# Altium footprint library WCAP-CSGP.PcbLib: 25 footprints (part 1 of 2)
Each footprint in its own frame and in the unit in brackets; x right, y up, seen from the top. Pads: shape width x height; smd on the part's side, far side on the other; paste and mask are expansions set on the pad; w line width, h text height; cw(c..) or ccw(c..) is an arc to the next point about the centre after c.
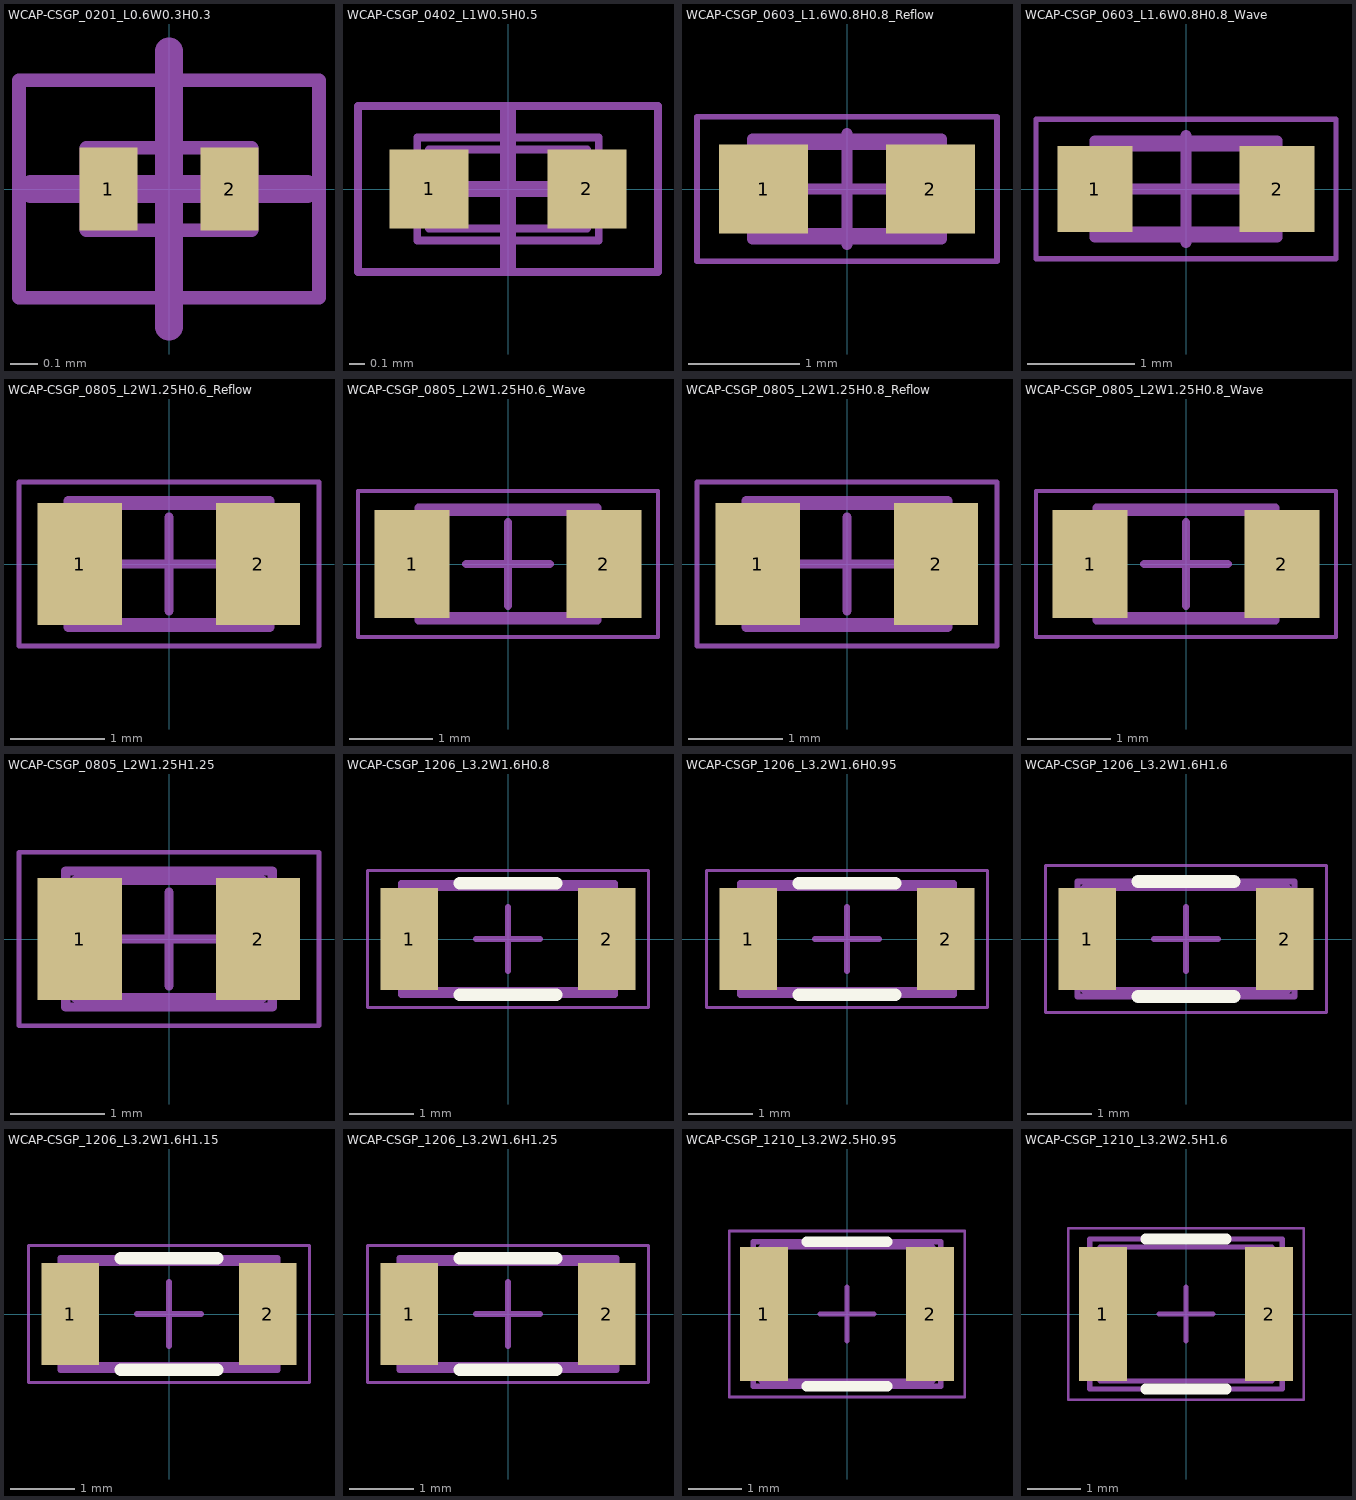
[diagram p0: the footprints below, top view; thin cyan lines are the x and y axes]

## WCAP-CSGP_0201_L0.6W0.3H0.3 [mm] "Ceramic Capacitors, body 0.60x0.30mm"
height 0.3
pads (2):
  rect 0.21x0.3 smd: 1(-0.22,0) 2(0.22,0)
Top Assembly:
  lines w0.05: -0.3,-0.15 0.3,-0.15 0.3,0.15 -0.3,0.15 -0.3,-0.15
Top Designator:
  text ".Designator" at -3.647,-0.357 h1
Top 3D Body:
  lines w0.05: -0.3,-0.15 0.3,-0.15 0.3,0.15 -0.3,0.15 -0.3,-0.15
Top Courtyard:
  lines w0.05: -0.545,-0.395 0.545,-0.395 0.545,0.395 -0.545,0.395 -0.545,-0.395
Top Component Center:
  lines w0.1: -0.5,0 0.5,0 ; 0,-0.5 0,0.5
3D body "CAPC0603X03N.step": height 0.3, standoff 0, extent -0.3,-0.15 0.3,0.15

## WCAP-CSGP_0402_L1W0.5H0.5 [mm] "Ceramic Capacitors, body 1x0.5mm"
height 0.5
pads (2):
  rect 0.5x0.5 smd: 1(-0.5,0) 2(0.5,0)
Top Assembly:
  lines w0.05: -0.575,-0.325 0.575,-0.325 0.575,0.325 -0.575,0.325 -0.575,-0.325
Top Designator:
  text ".Designator" at -3.647,-0.357 h1
Top 3D Body:
  lines w0.05: -0.5,-0.25 0.5,-0.25 0.5,0.25 -0.5,0.25 -0.5,-0.25
Top Courtyard:
  lines w0.05: -0.95,-0.525 0.95,-0.525 0.95,0.525 -0.95,0.525 -0.95,-0.525
Top Component Center:
  lines w0.1: -0.5,0 0.5,0 ; 0,-0.5 0,0.5
3D body "CAPC1005X05N.step": height 0.5, standoff 0, extent -0.5,-0.25 0.5,0.25

## WCAP-CSGP_0603_L1.6W0.8H0.8_Reflow [mm] "Ceramic Capacitors, body 1.6x0.8mm"
height 0.8
pads (2):
  rect 0.8x0.8 smd: 1(-0.75,0) 2(0.75,0)
Top Assembly:
  lines w0.1: -0.85,-0.45 -0.85,0.45 0.85,0.45 0.85,-0.45 -0.85,-0.45
Top Designator:
  text ".Designator" at -3.647,-0.357 h1
Top 3D Body:
  lines w0.1: -0.8,-0.4 -0.8,0.4 0.8,0.4 0.8,-0.4 -0.8,-0.4
Top Courtyard:
  lines w0.05: -1.35,-0.65 -1.35,0.65 1.35,0.65 1.35,-0.65 -1.35,-0.65
Top Component Center:
  lines w0.1: -0.5,0 0.5,0 ; 0,-0.5 0,0.5
3D body "CAPC1608X08N.step": height 0.8, standoff 0, extent -0.8,-0.4 0.8,0.4

## WCAP-CSGP_0603_L1.6W0.8H0.8_Wave [mm] "Ceramic Capacitors, 0603, body 1.6x0.8mm"
height 0.8
pads (2):
  rect 0.7x0.8 smd: 1(-0.85,0) 2(0.85,0)
Top Assembly:
  lines w0.1: -0.85,-0.45 0.85,-0.45 0.85,0.45 -0.85,0.45 -0.85,-0.45
Top Designator:
  text ".Designator" at -3.647,-0.357 h1
Top 3D Body:
  lines w0.1: -0.8,-0.4 0.8,-0.4 0.8,0.4 -0.8,0.4 -0.8,-0.4
Top Courtyard:
  lines w0.05: -1.4,-0.65 -1.4,0.65 1.4,0.65 1.4,-0.65 -1.4,-0.65
Top Component Center:
  lines w0.1: -0.5,0 0.5,0 ; 0,-0.5 0,0.5
3D body "CAPC1608X08N.step": height 0.8, standoff 0, extent -0.8,-0.4 0.8,0.4

## WCAP-CSGP_0805_L2W1.25H0.6_Reflow [mm] "Ceramic Capacitors, body 2x1.25mm"
height 0.7
pads (2):
  rect 0.9x1.3 smd: 1(-0.95,0) 2(0.95,0)
Top Assembly:
  lines w0.1: -1.075,-0.675 -1.075,0.675 1.075,0.675 1.075,-0.675 -1.075,-0.675
Top Designator:
  text ".Designator" at -3.647,-0.357 h1
Top 3D Body:
  lines w0.1: -1,-0.625 -1,0.625 1,0.625 1,-0.625 -1,-0.625
Top Courtyard:
  lines w0.05: -1.6,-0.875 1.6,-0.875 1.6,0.875 -1.6,0.875 -1.6,-0.875
Top Component Center:
  lines w0.1: -0.5,0 0.5,0 ; 0,-0.5 0,0.5
3D body "CAPC2012X06N.step": height 0.6, standoff 0, extent -1,-0.625 1,0.625

## WCAP-CSGP_0805_L2W1.25H0.6_Wave [mm] "Ceramic Capacitors, body 2x1.25mm"
height 0.7
pads (2):
  rect 0.9x1.3 smd: 1(-1.15,0) 2(1.15,0)
Top Assembly:
  lines w0.1: -1.075,-0.675 -1.075,0.675 1.075,0.675 1.075,-0.675 -1.075,-0.675
Top Designator:
  text ".Designator" at -3.647,-0.357 h1
Top 3D Body:
  lines w0.1: -1,-0.625 -1,0.625 1,0.625 1,-0.625 -1,-0.625
Top Courtyard:
  lines w0.05: -1.8,-0.875 -1.8,0.875 1.8,0.875 1.8,-0.875 -1.8,-0.875
Top Component Center:
  lines w0.1: -0.5,0 0.5,0 ; 0,-0.5 0,0.5
3D body "CAPC2012X06N.step": height 0.6, standoff 0, extent -1,-0.625 1,0.625

## WCAP-CSGP_0805_L2W1.25H0.8_Reflow [mm] "Ceramic Capacitors, body 2x1.25mm"
height 0.9
pads (2):
  rect 0.9x1.3 smd: 1(-0.95,0) 2(0.95,0)
Top Assembly:
  lines w0.1: -1.075,-0.675 -1.075,0.675 1.075,0.675 1.075,-0.675 -1.075,-0.675
Top Designator:
  text ".Designator" at -3.647,-0.357 h1
Top 3D Body:
  lines w0.1: -1,-0.625 -1,0.625 1,0.625 1,-0.625 -1,-0.625
Top Courtyard:
  lines w0.05: -1.6,-0.875 1.6,-0.875 1.6,0.875 -1.6,0.875 -1.6,-0.875
Top Component Center:
  lines w0.1: -0.5,0 0.5,0 ; 0,-0.5 0,0.5
3D body "CAPC2012X08N.step": height 0.8, standoff 0, extent -1,-0.625 1,0.625

## WCAP-CSGP_0805_L2W1.25H0.8_Wave [mm] "Ceramic Capacitors, body 2x1.25mm"
height 0.9
pads (2):
  rect 0.9x1.3 smd: 1(-1.15,0) 2(1.15,0)
Top Assembly:
  lines w0.1: -1.075,-0.675 -1.075,0.675 1.075,0.675 1.075,-0.675 -1.075,-0.675
Top Designator:
  text ".Designator" at -3.647,-0.357 h1
Top 3D Body:
  lines w0.1: -1,-0.625 -1,0.625 1,0.625 1,-0.625 -1,-0.625
Top Courtyard:
  lines w0.05: -1.8,-0.875 -1.8,0.875 1.8,0.875 1.8,-0.875 -1.8,-0.875
Top Component Center:
  lines w0.1: -0.5,0 0.5,0 ; 0,-0.5 0,0.5
3D body "CAPC2012X08N.step": height 0.8, standoff 0, extent -1,-0.625 1,0.625

## WCAP-CSGP_0805_L2W1.25H1.25 [mm] "Ceramic Capacitors, body 2x1.25mm"
height 1.35
pads (2):
  rect 0.9x1.3 smd: 1(-0.95,0) 2(0.95,0)
Top Assembly:
  lines w0.1: -1.1,-0.725 1.1,-0.725 1.1,0.725 -1.1,0.725 -1.1,-0.725
Top Designator:
  text ".Designator" at -3.647,-0.357 h1
Top 3D Body:
  lines w0.1: -1,-0.625 1,-0.625 1,0.625 -1,0.625 -1,-0.625
Top Courtyard:
  lines w0.05: -1.6,-0.925 -1.6,0.925 1.6,0.925 1.6,-0.925 -1.6,-0.925
Top Component Center:
  lines w0.1: -0.5,0 0.5,0 ; 0,-0.5 0,0.5
3D body "CAPC2012X12N.step": height 1.25, standoff 0, extent -1,-0.625 1,0.625

## WCAP-CSGP_1206_L3.2W1.6H0.8 [mm] "Ceramic Capacitors, body 3.2x1.6mm"
height 0.9
pads (2):
  rect 0.9x1.6 smd: 1(-1.55,0) 2(1.55,0)
Top Overlay:
  lines w0.2: -0.75,-0.875 0.75,-0.875 ; -0.75,0.875 0.75,0.875
Top Assembly:
  lines w0.1: -1.675,-0.875 1.675,-0.875 1.675,0.875 -1.675,0.875 -1.675,-0.875
Top Designator:
  text ".Designator" at -3.647,-0.357 h1
Top 3D Body:
  lines w0.1: -1.6,-0.8 1.6,-0.8 1.6,0.8 -1.6,0.8 -1.6,-0.8
Top Courtyard:
  lines w0.05: -2.2,-1.075 -2.2,1.075 2.2,1.075 2.2,-1.075 -2.2,-1.075
Top Component Center:
  lines w0.1: -0.5,0 0.5,0 ; 0,-0.5 0,0.5
3D body "CAPC3216X08N.step": height 0.8, standoff 0, extent -1.6,-0.8 1.6,0.8

## WCAP-CSGP_1206_L3.2W1.6H0.95 [mm] "Ceramic Capacitors, body 3.2x1.6mm"
height 1.05
pads (2):
  rect 0.9x1.6 smd: 1(-1.55,0) 2(1.55,0)
Top Overlay:
  lines w0.2: -0.75,-0.875 0.75,-0.875 ; -0.75,0.875 0.75,0.875
Top Assembly:
  lines w0.1: -1.675,-0.875 1.675,-0.875 1.675,0.875 -1.675,0.875 -1.675,-0.875
Top Designator:
  text ".Designator" at -3.647,-0.357 h1
Top 3D Body:
  lines w0.1: -1.6,-0.8 1.6,-0.8 1.6,0.8 -1.6,0.8 -1.6,-0.8
Top Courtyard:
  lines w0.05: -2.2,-1.075 2.2,-1.075 2.2,1.075 -2.2,1.075 -2.2,-1.075
Top Component Center:
  lines w0.1: -0.5,0 0.5,0 ; 0,-0.5 0,0.5
3D body "CAPC3216X10N.step": height 0.95, standoff 0, extent -1.6,-0.8 1.6,0.8

## WCAP-CSGP_1206_L3.2W1.6H1.6 [mm] "Ceramic Capacitors, body 3.2x1.6mm"
height 1.9
pads (2):
  rect 0.9x1.6 smd: 1(-1.55,0) 2(1.55,0)
Top Overlay:
  lines w0.2: -0.75,-0.9 0.75,-0.9 ; -0.75,0.9 0.75,0.9
Top Assembly:
  lines w0.1: -1.7,-0.9 -1.7,0.9 1.7,0.9 1.7,-0.9 -1.7,-0.9
Top Designator:
  text ".Designator" at -3.647,-0.357 h1
Top 3D Body:
  lines w0.1: -1.6,-0.8 1.6,-0.8 1.6,0.8 -1.6,0.8 -1.6,-0.8
Top Courtyard:
  lines w0.05: -2.2,-1.15 2.2,-1.15 2.2,1.15 -2.2,1.15 -2.2,-1.15
Top Component Center:
  lines w0.1: -0.5,0 0.5,0 ; 0,-0.5 0,0.5
3D body "CAPC3216X16N.step": height 1.6, standoff 0, extent -1.6,-0.8 1.6,0.8

## WCAP-CSGP_1206_L3.2W1.6H1.15 [mm] "Ceramic Capacitors, body 3.2x1.6mm"
height 1.3
pads (2):
  rect 0.9x1.6 smd: 1(-1.55,0) 2(1.55,0)
Top Overlay:
  lines w0.2: -0.75,-0.875 0.75,-0.875 ; -0.75,0.875 0.75,0.875
Top Assembly:
  lines w0.1: -1.7,-0.875 -1.7,0.875 1.7,0.875 1.7,-0.875 -1.7,-0.875
Top Designator:
  text ".Designator" at -3.647,-0.357 h1
Top 3D Body:
  lines w0.1: -1.6,-0.8 1.6,-0.8 1.6,0.8 -1.6,0.8 -1.6,-0.8
Top Courtyard:
  lines w0.05: -2.2,-1.075 2.2,-1.075 2.2,1.075 -2.2,1.075 -2.2,-1.075
Top Component Center:
  lines w0.1: -0.5,0 0.5,0 ; 0,-0.5 0,0.5
3D body "CAPC3216X12N.step": height 1.15, standoff 0, extent -1.6,-0.8 1.6,0.8

## WCAP-CSGP_1206_L3.2W1.6H1.25 [mm] "Ceramic Capacitors, body 3.2x1.6mm"
height 1.35
pads (2):
  rect 0.9x1.6 smd: 1(-1.55,0) 2(1.55,0)
Top Overlay:
  lines w0.2: -0.75,-0.875 0.75,-0.875 ; -0.75,0.875 0.75,0.875
Top Assembly:
  lines w0.1: -1.7,-0.875 1.7,-0.875 1.7,0.875 -1.7,0.875 -1.7,-0.875
Top Designator:
  text ".Designator" at -3.647,-0.357 h1
Top 3D Body:
  lines w0.1: -1.6,-0.8 -1.6,0.8 1.6,0.8 1.6,-0.8 -1.6,-0.8
Top Courtyard:
  lines w0.05: -2.2,-1.075 -2.2,1.075 2.2,1.075 2.2,-1.075 -2.2,-1.075
Top Component Center:
  lines w0.1: -0.5,0 0.5,0 ; 0,-0.5 0,0.5
3D body "CAPC3216X12N.step": height 1.25, standoff 0, extent -1.6,-0.8 1.6,0.8

## WCAP-CSGP_1210_L3.2W2.5H0.95 [mm] "Ceramic Capacitors, body 3.2x2.5mm"
height 1.05
pads (2):
  rect 0.9x2.5 smd: 1(-1.55,0) 2(1.55,0)
Top Overlay:
  lines w0.2: -0.75,-1.35 0.75,-1.35 ; -0.75,1.35 0.75,1.35
Top Assembly:
  lines w0.1: -1.75,-1.35 1.75,-1.35 1.75,1.35 -1.75,1.35 -1.75,-1.35
Top Designator:
  text ".Designator" at -3.647,-0.357 h1
Top 3D Body:
  lines w0.1: -1.6,-1.25 -1.6,1.25 1.6,1.25 1.6,-1.25 -1.6,-1.25
Top Courtyard:
  lines w0.05: -2.2,-1.55 2.2,-1.55 2.2,1.55 -2.2,1.55 -2.2,-1.55
Top Component Center:
  lines w0.1: -0.5,0 0.5,0 ; 0,-0.5 0,0.5
3D body "CAPC3225X10N.step": height 0.95, standoff 0, extent -1.6,-1.25 1.6,1.25

## WCAP-CSGP_1210_L3.2W2.5H1.6 [mm] "Ceramic Capacitors, body 3.2x2.5mm"
height 1.8
pads (2):
  rect 0.9x2.5 smd: 1(-1.55,0) 2(1.55,0)
Top Overlay:
  lines w0.2: -0.75,-1.4 0.75,-1.4 ; -0.75,1.4 0.75,1.4
Top Assembly:
  lines w0.1: -1.8,-1.4 1.8,-1.4 1.8,1.4 -1.8,1.4 -1.8,-1.4
Top Designator:
  text ".Designator" at -3.647,-0.357 h1
Top 3D Body:
  lines w0.1: -1.6,-1.25 1.6,-1.25 1.6,1.25 -1.6,1.25 -1.6,-1.25
Top Courtyard:
  lines w0.05: -2.2,-1.6 2.2,-1.6 2.2,1.6 -2.2,1.6 -2.2,-1.6
Top Component Center:
  lines w0.1: -0.5,0 0.5,0 ; 0,-0.5 0,0.5
3D body "CAPC3225X16N.step": height 1.6, standoff 0, extent -1.6,-1.25 1.6,1.25